# EAGLE library part 61001018321 (library Wuerth_Elektronik_eiCan_Pin_&_Socked_Headers_v1.3)
WR-PHD 2.54mm SMT Pin Header, 10Pins
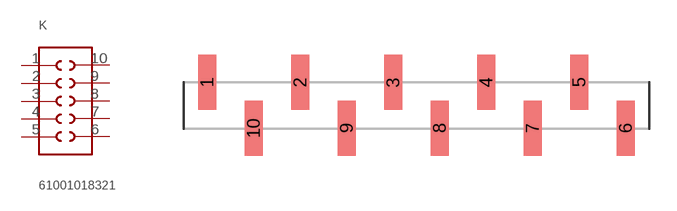
[diagram p83: symbol with the pads of 61001018321; footprint 61001018321]

Designator prefix K

## 61001018321  [61001018321]
1  1  pas
2  2  pas
3  3  pas
4  4  pas
5  5  pas
6  6  pas
7  7  pas
8  8  pas
9  9  pas
10  10  pas

## Footprint 61001018321 (pad centres in mm)
WR-PHD 2.54mm SMT Pin Header, 10Pins
smd 1 x 3: 1 -11.43,1.25; 2 -6.35,1.25; 3 -1.27,1.25; 4 3.81,1.25; 5 8.89,1.25; 6 11.43,-1.25; 7 6.35,-1.25; 8 1.27,-1.25; 9 -3.81,-1.25; 10 -8.89,-1.25